# Altium schematic symbol library TPS3836K33QDBVRQ1.SchLib: 1 symbol
Pins are listed as number, name and electrical type; pins without a type are passive.

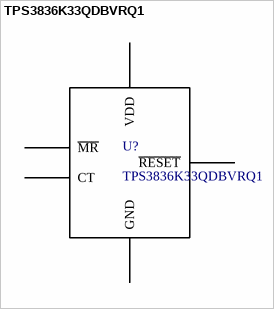
[diagram p0: symbol TPS3836K33QDBVRQ1]

## TPS3836K33QDBVRQ1
designator U?
PartDescription: IC SUPERVISOR 1 CHANNEL SOT23-5; Manufacturer: Texas Instruments; PartNumber: TPS3836K33QDBVRQ1; Value: *; Package Type: SOT-23-5; Supplier 1: Digi-Key; Supplier Part Number 1: 296-15663-1-ND
footprint SOT-23-5
pins: 1 CT, 2 GND, 3 ~{MR}, 4 ~{RESET}, 5 VDD